# Altium footprint library 20021121-00010C4LF.PcbLib: 1 footprints
Each footprint in its own frame and in the unit in brackets; x right, y up, seen from the top. Pads: shape width x height; smd on the part's side, far side on the other; paste and mask are expansions set on the pad; w line width, h text height; cw(c..) or ccw(c..) is an arc to the next point about the centre after c.
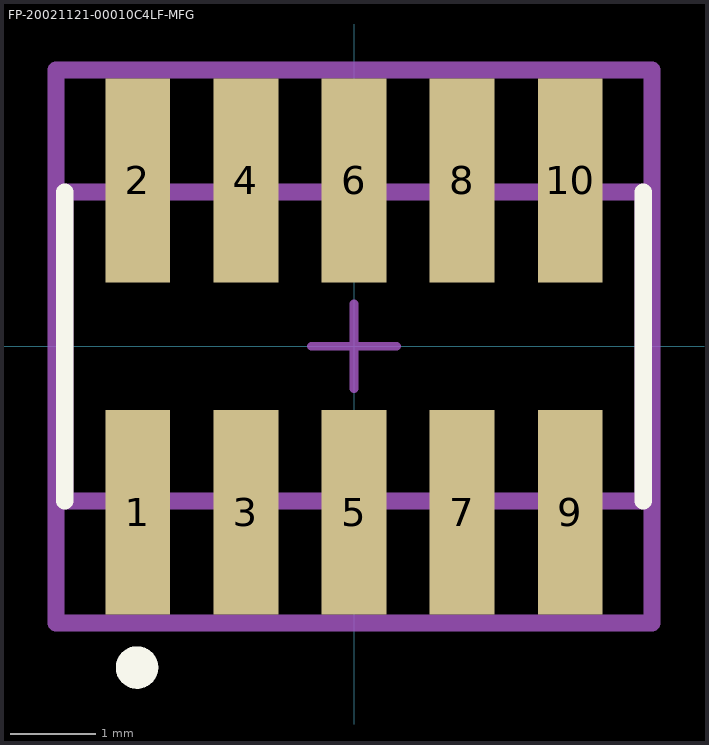
[diagram p0: the footprint, top view; thin cyan lines are the x and y axes]

## FP-20021121-00010C4LF-MFG [mm]
pads (10):
  rect 0.76x2.4 smd paste+0 mask+0: 1(-2.54,-1.95) 2(-2.54,1.95) 3(-1.27,-1.95) 4(-1.27,1.95) 5(0,-1.95) 6(0,1.95) 7(1.27,-1.95) 8(1.27,1.95) 9(2.54,-1.95) 10(2.54,1.95)
Top Overlay:
  circle w0.25: c-2.55,-3.775 r0.125
  lines w0.2: -3.4,-1.815 -3.4,1.815 ; 3.4,-1.815 3.4,1.815
Top Assembly:
  lines w0.2: -3.5,-3.25 -3.5,3.25 3.5,3.25 3.5,-3.25 -3.5,-3.25
  text ".Designator" at 0,-0.001 h1
Top 3D Body:
  lines w0.2: -3.4,-1.815 -3.4,1.815 3.4,1.815 3.4,-1.815 -3.4,-1.815
Top Courtyard:
  lines w0.2: -3.5,-3.25 -3.5,3.25 3.5,3.25 3.5,-3.25 -3.5,-3.25
Top Component Center:
  lines w0.1: -0.5,0 0.5,0 ; 0,-0.5 0,0.5
3D body "Conn_Amphenol_ICC_-_FCI_20021121-00010C4LF_eec.STEP": height 0.25, standoff 0, extent -3.5,-3.25 3.5,3.25